# Altium schematic symbol library IUD.SchLib: 77 symbols
Pins are listed as number, name and electrical type; pins without a type are passive.

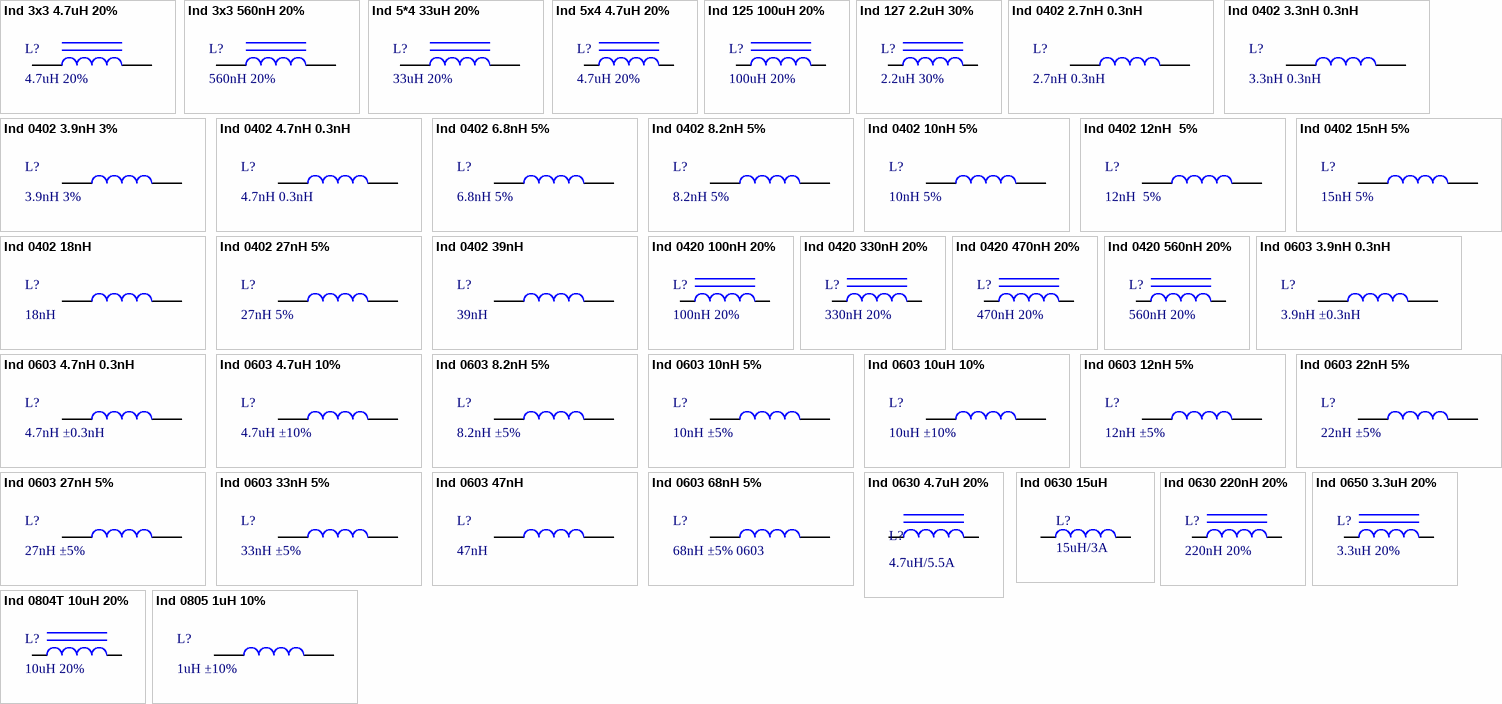
[diagram p0: symbols Ind 3x3 4.7uH 20% to Ind 0805 1uH 10%]

## Ind 3x3 4.7uH 20%
designator L?, comment 4.7uH 20%
贴片功率电感
footprint IND3x3
pins: 1, 2

## Ind 3x3 560nH 20%
designator L?, comment 560nH 20%
贴片功率电感
footprint IND3x3
pins: 1, 2

## Ind 5*4 33uH 20%
designator L?, comment 33uH 20%
贴片功率电感
footprint IND5X4
pins: 1, 2

## Ind 5x4 4.7uH 20%
designator L?, comment 4.7uH 20%
贴片功率电感
footprint IND5x4
pins: 1, 2

## Ind 125 100uH 20%
designator L?, comment 100uH 20%
贴片功率电感
footprint 1205_L (Footprint not found)
pins: 1, 2

## Ind 127 2.2uH 30%
designator L?, comment 2.2uH 30%
贴片功率电感
footprint 1207_L (Footprint not found)
pins: 1, 2

## Ind 0402 2.7nH 0.3nH
designator L?, comment 2.7nH 0.3nH
贴片电感; ComponentLink1Description: 供应商链接; ComponentLink1URL: http://www.szlcsc.com/product/details_27872.html; Package: 0402; Supplier: LC; SuppliersPartNumber: C27123
footprint 0402_L
pins: 1, 2

## Ind 0402 3.3nH 0.3nH
designator L?, comment 3.3nH 0.3nH
贴片电感; ComponentLink1Description: 供应商链接; ComponentLink1URL: http://www.szlcsc.com/product/details_27873.html; Package: 0402; Supplier: LC; SuppliersPartNumber: C27124
footprint 0402_L
pins: 1, 2

## Ind 0402 3.9nH 3%
designator L?, comment 3.9nH 3%
贴片电感; ComponentLink1Description: 供应商链接; ComponentLink1URL: http://www.szlcsc.com/product/details_14690.html; Package: 0402; Supplier: LC; SuppliersPartNumber: C14033
footprint 0402_L
pins: 1, 2

## Ind 0402 4.7nH 0.3nH
designator L?, comment 4.7nH 0.3nH
贴片电感; ComponentLink1Description: 供应商链接; ComponentLink1URL: http://www.szlcsc.com/product/details_14246.html; Package: 0402; Supplier: LC; SuppliersPartNumber: C13595
footprint 0402_L
pins: 1, 2

## Ind 0402 6.8nH 5%
designator L?, comment 6.8nH 5%
贴片电感; ComponentLink1Description: 供应商链接; ComponentLink1URL: http://www.szlcsc.com/product/details_33003.html; Package: 0402; Supplier: LC; SuppliersPartNumber: C32041
footprint 0402_L
pins: 1, 2

## Ind 0402 8.2nH 5%
designator L?, comment 8.2nH 5%
贴片电感; ComponentLink1Description: 供应商链接; ComponentLink1URL: http://www.szlcsc.com/product/details_16890.html; Package: 0402; Supplier: LC; SuppliersPartNumber: C16208
footprint 0402_L
pins: 1, 2

## Ind 0402 10nH 5%
designator L?, comment 10nH 5%
贴片电感; ComponentLink1Description: 供应商链接; ComponentLink1URL: http://www.szlcsc.com/product/details_27896.html; Package: 0402; Supplier: LC; SuppliersPartNumber: C27147
footprint 0402_L
pins: 1, 2

## Ind 0402 12nH  5%
designator L?, comment 12nH  5%
贴片电感; ComponentLink1Description: 供应商链接; ComponentLink1URL: http://www.szlcsc.com/product/details_25303.html; Package: 0402; Supplier: LC; SuppliersPartNumber: C24563
footprint 0402_L
pins: 1, 2

## Ind 0402 15nH 5%
designator L?, comment 15nH 5%
贴片电感; ComponentLink1Description: 供应商链接; ComponentLink1URL: http://www.szlcsc.com/product/details_27892.html; Package: 0402; Supplier: LC; SuppliersPartNumber: C27143
footprint 0402_L
pins: 1, 2

## Ind 0402 18nH
designator L?, comment 18nH
贴片电感; ComponentLink1Description: 供应商链接; ComponentLink1URL: http://www.szlcsc.com/product/details_25302.html; Package: 0402; Supplier: LC; SuppliersPartNumber: C24562
footprint 0402_L
pins: 1, 2

## Ind 0402 27nH 5%
designator L?, comment 27nH 5%
贴片电感; ComponentLink1Description: 供应商链接; ComponentLink1URL: http://www.szlcsc.com/product/details_19533.html; Package: 0402; Supplier: LC; SuppliersPartNumber: C18830
footprint 0402_L
pins: 1, 2

## Ind 0402 39nH
designator L?, comment 39nH
贴片电感; ComponentLink1Description: 供应商链接; ComponentLink1URL: http://www.szlcsc.com/product/details_27187.html; Package: 0402; Supplier: LC; SuppliersPartNumber: C26443
footprint 0402_L
pins: 1, 2

## Ind 0420 100nH 20%
designator L?, comment 100nH 20%
贴片功率电感
footprint 0420_L
pins: 1, 2

## Ind 0420 330nH 20%
designator L?, comment 330nH 20%
贴片功率电感
footprint 0420_L
pins: 1, 2

## Ind 0420 470nH 20%
designator L?, comment 470nH 20%
贴片功率电感
footprint 0420_L
pins: 1, 2

## Ind 0420 560nH 20%
designator L?, comment 560nH 20%
贴片功率电感
footprint 0420_L
pins: 1, 2

## Ind 0603 3.9nH 0.3nH
designator L?, comment 3.9nH ±0.3nH
贴片电感; ComponentLink1Description: 供应商链接; ComponentLink1URL: http://www.szlcsc.com/product/details_14473.html; Package: 0603; Supplier: LC; SuppliersPartNumber: C13818
footprint 0603_L
pins: 1, 2

## Ind 0603 4.7nH 0.3nH
designator L?, comment 4.7nH ±0.3nH
贴片电感; ComponentLink1Description: 供应商链接; ComponentLink1URL: http://www.szlcsc.com/product/details_1382.html; Package: 0603; Supplier: LC; SuppliersPartNumber: C1030
footprint 0603_L
pins: 1, 2

## Ind 0603 4.7uH 10%
designator L?, comment 4.7uH ±10%
贴片电感; ComponentLink1Description: 供应商链接; ComponentLink1URL: http://www.szlcsc.com/product/details_1386.html; Package: 0603; Supplier: LC; SuppliersPartNumber: C1034
footprint 0603_L
pins: 1, 2

## Ind 0603 8.2nH 5%
designator L?, comment 8.2nH ±5%
贴片电感; ComponentLink1Description: 供应商链接; ComponentLink1URL: http://www.szlcsc.com/product/details_1384.html; Package: 0603; Supplier: LC; SuppliersPartNumber: C1032
footprint 0603_L
pins: 1, 2

## Ind 0603 10nH 5%
designator L?, comment 10nH ±5%
贴片电感; ComponentLink1Description: 供应商链接; ComponentLink1URL: http://www.szlcsc.com/product/details_16347.html; Package: 0603; Supplier: LC; SuppliersPartNumber: C15666
footprint 0603_L
pins: 1, 2

## Ind 0603 10uH 10%
designator L?, comment 10uH ±10%
贴片电感; ComponentLink1Description: 供应商链接; ComponentLink1URL: http://www.szlcsc.com/product/details_1387.html; Package: 0603; Supplier: LC; SuppliersPartNumber: C1035
footprint 0603_L
pins: 1, 2

## Ind 0603 12nH 5%
designator L?, comment 12nH ±5%
贴片电感; ComponentLink1Description: 供应商链接; ComponentLink1URL: http://www.szlcsc.com/product/details_30010.html; Package: 0603; Supplier: LC; SuppliersPartNumber: C29258
footprint 0603_L
pins: 1, 2

## Ind 0603 22nH 5%
designator L?, comment 22nH ±5%
贴片电感; ComponentLink1Description: 供应商链接; ComponentLink1URL: http://www.szlcsc.com/product/details_12684.html; Package: 0603; Supplier: LC; SuppliersPartNumber: C12099
footprint 0603_L
pins: 1, 2

## Ind 0603 27nH 5%
designator L?, comment 27nH ±5%
贴片电感; ComponentLink1Description: 供应商链接; ComponentLink1URL: http://www.szlcsc.com/product/details_12685.html; Package: 0603; Supplier: LC; SuppliersPartNumber: C12100
footprint 0603_L
pins: 1, 2

## Ind 0603 33nH 5%
designator L?, comment 33nH ±5%
贴片电感; ComponentLink1Description: 供应商链接; ComponentLink1URL: http://www.szlcsc.com/product/details_36021.html; Package: 0603; Supplier: LC; SuppliersPartNumber: C35050
footprint 0603_L
pins: 1, 2

## Ind 0603 47nH
designator L?, comment 47nH
贴片电感; ComponentLink1Description: 供应商链接; ComponentLink1URL: http://www.szlcsc.com/product/details_30437.html; Package: 0603; Supplier: LC; SuppliersPartNumber: C29683
footprint 0603_L
pins: 1, 2

## Ind 0603 68nH 5%
designator L?, comment 68nH ±5% 0603
贴片电感; ComponentLink1Description: 供应商链接; ComponentLink1URL: http://www.szlcsc.com/product/details_14064.html; Package: 0603; Supplier: LC; SuppliersPartNumber: C13415
footprint 0603_L
pins: 1, 2

## Ind 0630 4.7uH 20%
designator L?, comment 4.7uH/5.5A
贴片电感; Code_IEC: 1005; Published: 8-Jun-2000; LatestRevisionDate: 29-May-2009; LatestRevisionNote: IPC-7351 Footprint Added.; PackageReference: 0402-A; Publisher: Altium Limited; PackageDescription: Chip Inductor; Code_JEITA: 0402
footprint 0630_L
pins: 1, 2

## Ind 0630 15uH
designator L?, comment 15uH/3A
贴片电感; Code_IEC: 1005; Published: 8-Jun-2000; LatestRevisionDate: 29-May-2009; LatestRevisionNote: IPC-7351 Footprint Added.; PackageReference: 0402-A; Publisher: Altium Limited; PackageDescription: Chip Inductor; Code_JEITA: 0402
footprint 0630_L
pins: 1, 2

## Ind 0630 220nH 20%
designator L?, comment 220nH 20%
贴片功率电感
footprint 0630_L
pins: 1, 2

## Ind 0650 3.3uH 20%
designator L?, comment 3.3uH 20%
贴片功率电感
footprint 0650_L
pins: 1, 2

## Ind 0804T 10uH 20%
designator L?, comment 10uH 20%
贴片功率电感
footprint 0804T_L (功率电感)
pins: 1, 2

## Ind 0805 1uH 10%
designator L?, comment 1uH ±10%
贴片电感; ComponentLink1Description: 供应商链接; ComponentLink1URL: http://www.szlcsc.com/product/details_1394.html; Package: 0805; Supplier: LC; SuppliersPartNumber: C1042
footprint 0805_L
pins: 1, 2

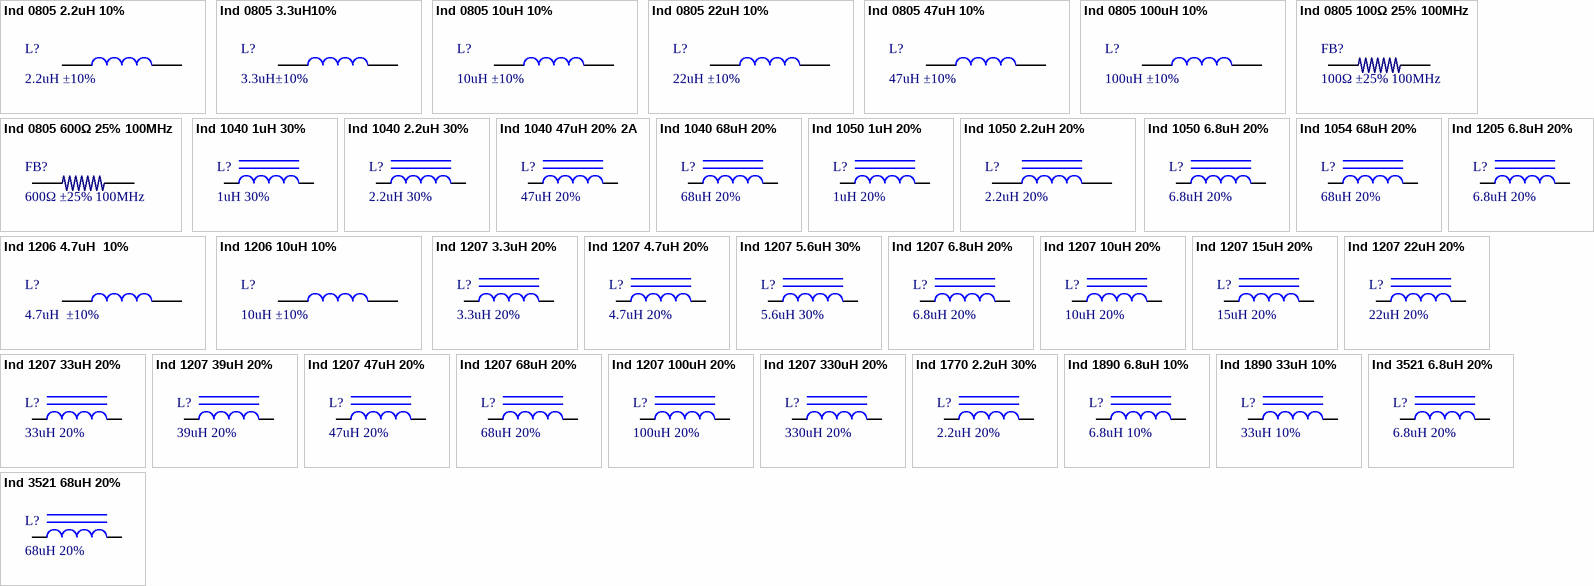
[diagram p1: symbols Ind 0805 2.2uH 10% to Ind 3521 68uH 20%]

## Ind 0805 2.2uH 10%
designator L?, comment 2.2uH ±10%
贴片电感; ComponentLink1Description: 供应商链接; ComponentLink1URL: http://www.szlcsc.com/product/details_1395.html; Package: 0805; Supplier: LC; SuppliersPartNumber: C1043
footprint 0805_L
pins: 1, 2

## Ind 0805 3.3uH10%
designator L?, comment 3.3uH±10%
贴片电感; ComponentLink1Description: 供应商链接; ComponentLink1URL: http://www.szlcsc.com/product/details_52738.html; Package: 0805; Supplier: LC; SuppliersPartNumber: C51725
footprint 0805_L
pins: 1, 2

## Ind 0805 10uH 10%
designator L?, comment 10uH ±10%
贴片电感; ComponentLink1Description: 供应商链接; ComponentLink1URL: http://www.szlcsc.com/product/details_1398.html; Package: 0805; Supplier: LC; SuppliersPartNumber: C1046
footprint 0805_L
pins: 1, 2

## Ind 0805 22uH 10%
designator L?, comment 22uH ±10%
贴片电感; ComponentLink1Description: 供应商链接; ComponentLink1URL: http://www.szlcsc.com/product/details_33340.html; Package: 0805; Supplier: LC; SuppliersPartNumber: C32375
footprint 0805_L
pins: 1, 2

## Ind 0805 47uH 10%
designator L?, comment 47uH ±10%
贴片电感; ComponentLink1Description: 供应商链接; ComponentLink1URL: http://www.szlcsc.com/product/details_14964.html; Package: 0805; Supplier: LC; SuppliersPartNumber: C14304
footprint 0805_L
pins: 1, 2

## Ind 0805 100uH 10%
designator L?, comment 100uH ±10%
贴片电感; ComponentLink1Description: 供应商链接; ComponentLink1URL: http://www.szlcsc.com/product/details_69137.html; Package: 0805; Supplier: LC; SuppliersPartNumber: C68035
footprint 0805_L
pins: 1, 2

## Ind 0805 100Ω 25% 100MHz
designator FB?, comment 100Ω ±25% 100MHz
贴片磁珠; ComponentLink1Description: 供应商链接; ComponentLink1URL: http://www.szlcsc.com/product/details_1367.html; Package: 0805; Supplier: LC; SuppliersPartNumber: C1015
footprint 0805_L
pins: 1, 2

## Ind 0805 600Ω 25% 100MHz
designator FB?, comment 600Ω ±25% 100MHz
贴片磁珠; ComponentLink1Description: 供应商链接; ComponentLink1URL: http://www.szlcsc.com/product/details_1369.html; Package: 0805; Supplier: LC; SuppliersPartNumber: C1017
footprint 0805_L
pins: 1, 2

## Ind 1040 1uH 30%
designator L?, comment 1uH 30%
贴片功率电感
footprint 1040_L
pins: 1, 2

## Ind 1040 2.2uH 30%
designator L?, comment 2.2uH 30%
贴片功率电感
footprint 1040_L
pins: 1, 2

## Ind 1040 47uH 20% 2A
designator L?, comment 47uH 20%
贴片功率电感
footprint 1040_L
pins: 1, 2

## Ind 1040 68uH 20%
designator L?, comment 68uH 20%
贴片功率电感
footprint 1040_L
pins: 1, 2

## Ind 1050 1uH 20%
designator L?, comment 1uH 20%
贴片功率电感
footprint 1050_L
pins: 1, 2

## Ind 1050 2.2uH 20%
designator L?, comment 2.2uH 20%
贴片功率电感
footprint 1050_L
pins: 1, 2

## Ind 1050 6.8uH 20%
designator L?, comment 6.8uH 20%
贴片功率电感
footprint 1050_L
pins: 1, 2

## Ind 1054 68uH 20%
designator L?, comment 68uH 20%
贴片功率电感
footprint 1054_L
pins: 1, 2

## Ind 1205 6.8uH 20%
designator L?, comment 6.8uH 20%
贴片功率电感
footprint 1205_L
pins: 1, 2

## Ind 1206 4.7uH  10%
designator L?, comment 4.7uH  ±10%
贴片电感; ComponentLink1Description: 供应商链接; ComponentLink1URL: http://www.szlcsc.com/product/details_1401.html; Package: 1206; Supplier: LC; SuppliersPartNumber: C1049
footprint 1206_L
pins: 1, 2

## Ind 1206 10uH 10%
designator L?, comment 10uH ±10%
贴片电感; ComponentLink1Description: 供应商链接; ComponentLink1URL: http://www.szlcsc.com/product/details_1403.html; Package: 1206; Supplier: LC; SuppliersPartNumber: C1051
footprint 1206_L
pins: 1, 2

## Ind 1207 3.3uH 20%
designator L?, comment 3.3uH 20%
贴片功率电感
footprint 1207_L
pins: 1, 2

## Ind 1207 4.7uH 20%
designator L?, comment 4.7uH 20%
贴片功率电感
footprint 1207_L
pins: 1, 2

## Ind 1207 5.6uH 30%
designator L?, comment 5.6uH 30%
贴片功率电感
footprint 1207_L
pins: 1, 2

## Ind 1207 6.8uH 20%
designator L?, comment 6.8uH 20%
贴片功率电感
footprint 1207_L
pins: 1, 2

## Ind 1207 10uH 20%
designator L?, comment 10uH 20%
贴片功率电感
footprint 1207_L
pins: 1, 2

## Ind 1207 15uH 20%
designator L?, comment 15uH 20%
贴片功率电感
footprint 1207_L
pins: 1, 2

## Ind 1207 22uH 20%
designator L?, comment 22uH 20%
贴片功率电感
footprint 1207_L
pins: 1, 2

## Ind 1207 33uH 20%
designator L?, comment 33uH 20%
贴片功率电感
footprint 1207_L
pins: 1, 2

## Ind 1207 39uH 20%
designator L?, comment 39uH 20%
贴片功率电感
footprint 1207_L
pins: 1, 2

## Ind 1207 47uH 20%
designator L?, comment 47uH 20%
贴片功率电感
footprint 1207_L
pins: 1, 2

## Ind 1207 68uH 20%
designator L?, comment 68uH 20%
贴片功率电感
footprint 1207_L
pins: 1, 2

## Ind 1207 100uH 20%
designator L?, comment 100uH 20%
贴片功率电感
footprint 1207_L
pins: 1, 2

## Ind 1207 330uH 20%
designator L?, comment 330uH 20%
贴片功率电感
footprint 1207_L
pins: 1, 2

## Ind 1770 2.2uH 30%
designator L?, comment 2.2uH 20%
贴片功率电感
footprint 1770_L
pins: 1, 2

## Ind 1890 6.8uH 10%
designator L?, comment 6.8uH 10%
贴片功率电感
footprint 1890_L (18X18)
pins: 1, 2

## Ind 1890 33uH 10%
designator L?, comment 33uH 10%
贴片功率电感
footprint 1890_L (18X18)
pins: 1, 2

## Ind 3521 6.8uH 20%
designator L?, comment 6.8uH 20%
贴片功率电感
footprint 3521_L
pins: 1, 2

## Ind 3521 68uH 20%
designator L?, comment 68uH 20%
贴片功率电感
footprint 3521_L
pins: 1, 2